# Altium schematic symbol library IND_L1.SchLib: 1 symbol
Pins are listed as number, name and electrical type; pins without a type are passive.

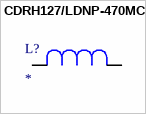
[diagram p0: symbol CDRH127/LDNP-470MC]

## CDRH127/LDNP-470MC
designator L?
47ÂµH Shielded Inductor 3.25A 78mOhm Max Nonstandard; MF: Sumida America; MP: CDRH127/LDNP-470MC; Digi-Key_Part_Number: 308-1339-1-ND; Check_prices: https://www.snapeda.com/parts/CDRH127/LDNP-470MC/Sumida%20America%20Components%20Inc./view-part/547921/?ref=eda; Package: Nonstandard Sumida; Value: *; SnapEDA_Link: https://www.snapeda.com/parts/CDRH127/LDNP-470MC/Sumida%20America%20Components%20Inc./view-part/547921/?ref=snap; Purchase-URL: https://pricing.snapeda.com/search/part/CDRH127/LDNP-470MC/?ref=eda
footprint IND_CDRH127/LDNP-470MC_SUM
pins: 1, 2